# Altium footprint library potentiometers.PcbLib: 25 footprints (part 1 of 2)
Each footprint in its own frame and in the unit in brackets; x right, y up, seen from the top. Pads: shape width x height; smd on the part's side, far side on the other; paste and mask are expansions set on the pad; w line width, h text height; cw(c..) or ccw(c..) is an arc to the next point about the centre after c.
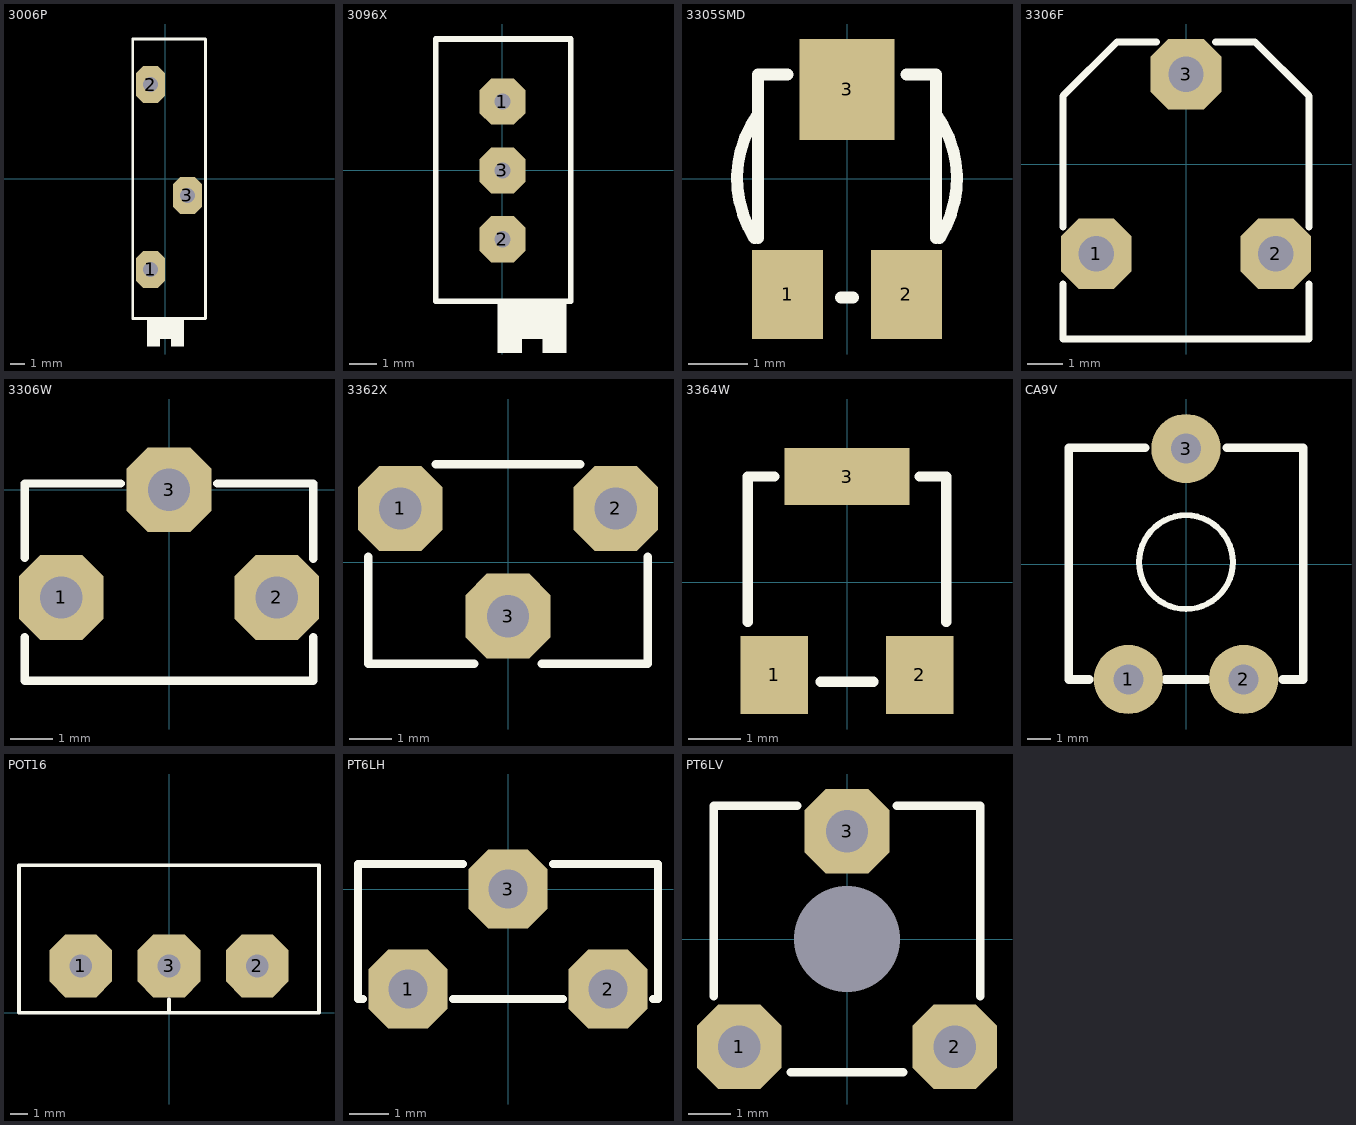
[diagram p0: the footprints below, top view; thin cyan lines are the x and y axes]

## 3006P [mm]
height 6.4
pads (3):
  oct 2x2.54 hole 1: 1(-1.016,-6.223) 2(-1.016,6.477) 3(1.524,-1.143)
Top Overlay:
  region: 1.27,-11.505 1.27,-9.6 0.381,-9.6 0.381,-11.505
  region: -0.381,-11.505 -0.381,-9.6 -1.27,-9.6 -1.27,-11.505
  region: 0.381,-10.997 0.381,-9.6 -0.381,-9.6 -0.381,-10.997
  lines w0.203: -2.235,-9.576 -2.235,9.601 2.769,9.601 2.769,-9.576 -2.235,-9.576
3D body "User Library-TRIM_3006P.STEP": height 6.55, standoff -2, extent -2.138,-10.757 2.692,9.538

## 3096X [mm] "3/8'' Square Trimpot Trimming Potentiometer"
height 11.55
pads (3):
  oct 1.7x1.7 hole 0.6: 1(0,2.54) 2(0,-2.54) 3(0,0)
Top Overlay:
  region: 1.473,-6.223 1.473,-4.826 0.711,-4.826 0.711,-6.223
  region: 0.711,-6.731 0.711,-4.826 -0.178,-4.826 -0.178,-6.731
  region: 2.362,-6.731 2.362,-4.826 1.473,-4.826 1.473,-6.731
  lines w0.203: -2.464,-4.826 2.515,-4.826 2.515,4.851 -2.464,4.851 -2.464,-4.826
3D body "User Library-Bourns - Trimpot 3296X.step": height 10.03, standoff -2.22, extent -2.392,-6.262 2.438,4.788

## 3296P [mm]
3D body "User Library-3296P.step": height 4.5, standoff -2.4, extent -1274.765,-1270 -1265.235,-1258.45

## 3296W [mm]
3D body "User Library-3296W.step": height 2.4, standoff -2.4, extent -1274.511,-1271.6 -1264.981,-1258.45

## 3296X [mm]
3D body "User Library-3296X.step": height 2.4, standoff -2.4, extent -1274.003,-1271.6 -1262.973,-1259.97

## 3296Y [mm]
3D body "User Library-3296Y.step": height 2.4, standoff -2.4, extent -1274.765,-1272.1 -1265.235,-1258.45

## 3296Z [mm]
3D body "User Library-3296Z.step": height 2.4, standoff -2.4, extent -1263.335,-1265.631 -1252.305,-1254.001

## 3305SMD [mm] "SRPassives 3305 SMT trimming potentiometer"
pads (3):
  rect 1.2x1.5 smd: 1(-1,-1.95) 2(1,-1.95)
  rect 1.6x1.7 smd: 3(0,1.5)
Top Overlay:
  lines w0.2: -1.558,-0.998 cw(c0,0) -1.504,1.078 ; -1.5,-1 -1.5,0.9 -1.5,1.75 -1,1.75 ; -0.1,-2 0.1,-2 ; 1,1.75 1.5,1.75 1.5,0.9 1.5,-1 ; 1.504,1.078 cw(c0,0) 1.558,-0.998
3D body: height 0.4, standoff 0, extent -1.5,-2 1.5,1.75
3D body: height 1.2, standoff 0.4, extent -1.85,-1.847 1.85,1.847

## 3306F [mm] "Bourns, 6mm Round Horizontal Trimming Potentiometer, Single-Turn, Cermet"
height 7.62
pads (3):
  oct 2x2 hole 1: 1(-2.54,-2.54) 2(2.54,-2.54) 3(0,2.54)
Top Overlay:
  lines w0.203: -3.48,-3.404 -3.48,-4.953 3.48,-4.953 3.48,-3.404 ; -3.48,-1.778 -3.48,1.93 -1.956,3.454 -0.838,3.454 ; 0.838,3.454 1.956,3.454 3.48,1.93 3.48,-1.778
3D body "User Library-Trimmer, 3306F-1.STEP": height 7.62, standoff -3.04, extent -3.405,-4.876 3.405,3.375

## 3306W [mm] "Bourns, 6mm Round Vertical Trimming Potentiometer, Single-Turn, Cermet"
height 7.5
pads (3):
  oct 2x2 hole 1: 1(-2.54,-2.54) 2(2.54,-2.54) 3(0,0)
Top Overlay:
  lines w0.2: -3.4,-3.475 -3.405,-3.48 -3.405,-4.5 3.405,-4.5 3.405,-3.48 3.4,-3.475 ; -3.4,-1.6 -3.4,0.15 -1.143,0.15 ; 1.143,0.15 3.4,0.15 3.4,-1.625
3D body "User Library-POT-3306W.step": height 8.4, standoff -1.91, extent -3.405,-4.5 3.405,0.15

## 3362X [mm] "Bourns, 6mm Round Vertical Trimming Potentiometer, Single-Turn, Cermet"
height 7.5
pads (3):
  oct 2x2 hole 1: 1(-2.54,1.27) 2(2.54,1.27) 3(0,-1.27)
Top Overlay:
  lines w0.2: -3.3,0.135 -3.3,-2.39 -0.8,-2.39 ; -1.7,2.31 1.7,2.31 ; 0.8,-2.39 3.3,-2.39 3.3,0.135
3D body "User Library-Bourns 3362X.step": height 7.1, standoff -5.4, extent -3.3,-2.39 3.3,2.31

## 3364W [mm] "Bourns 3364W SMT open frame cermet trimmer"
pads (3):
  rect 1.3x1.5 smd: 1(-1.397,-1.778) 2(1.397,-1.778)
  rect 2.4x1.1 smd: 3(0,2.032)
Top Overlay:
  lines w0.2: -1.905,-0.762 -1.905,2.032 -1.397,2.032 ; -0.508,-1.905 0.508,-1.905 ; 1.397,2.032 1.905,2.032 1.905,-0.762
3D body "3364w-1-103e.stp": height 1.01, standoff -0.03, extent -1.9,-2.23 1.9,2.27

## CA9V [mm]
pads (3):
  round 3 hole 1.3: 1(-2.5,-5) 2(2.5,-5) 3(0,5)
Top Overlay:
  circle w0.254: c0,0.08 r2.032
  lines w0.381: -4.191,-5 -5.08,-5 -5.08,5.033 -1.778,5.033 ; -0.889,-5 0.889,-5 ; 1.778,5.033 5.08,5.033 5.08,-5 4.191,-5

## POT16 [mm] "Potentiometr from AM10"
pads (3):
  oct 3.556x3.556 hole 1.3: 1(-5,2.65) 2(5,2.65) 3(0,2.65)
Top Overlay:
  lines w0.2: 0,0 0,0.75 ; -8.5,0 -8.5,8.35 8.5,8.35 8.5,0 -8.5,0

## PT6LH [mm] "Piher trimming potentiometer: PT6-series"
height 7.5
pads (3):
  oct 2x2 hole 1: 1(-2.54,-2.54) 2(2.54,-2.54) 3(0,0)
Top Overlay:
  lines w0.2: -3.683,-2.794 -3.81,-2.794 -3.81,0.635 -1.143,0.635 ; -1.397,-2.794 1.397,-2.794 ; 1.143,0.635 3.81,0.635 3.81,-2.794 3.683,-2.794

## PT6LV [mm] "Piher trimming potentiometer: PT6-series"
height 4
pads (4):
  round 0 hole 2.5: 0(0,0)
  oct 2x2 hole 1: 1(-2.54,-2.54) 2(2.54,-2.54) 3(0,2.54)
Top Overlay:
  lines w0.2: -3.15,-1.35 -3.15,3.15 -1.175,3.15 ; -1.325,-3.15 1.325,-3.15 ; 1.175,3.15 3.15,3.15 3.15,-1.35
3D body "User Library-RES_PT6-3.step": height 4.05, standoff -3.24, extent -3.15,-3.15 3.15,3.15